# EAGLE library part ATTINY3224-SSU (library ATTINY3224-SSU)
8-bit Microcontrollers - MCU 20MHz, 32KB, SOIC14, Ind 85C, Green Source: Datasheet <https://ww1.microchip.com/downloads/aemDocuments/documents/MCU08/ProductDocuments/DataSheets/ATtiny3224-3226-3227-Data-Sheet-DS40002345B.pdf>
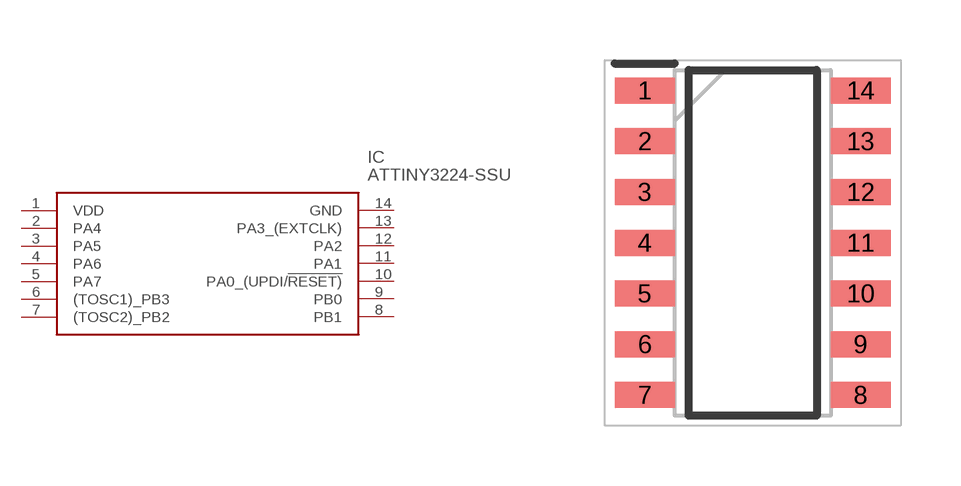
[diagram p0: symbol with the pads of SOIC127P600X175-14N; footprint SOIC127P600X175-14N]

Designator prefix IC

## ATTINY3224-SSU (Arrow_Part_Number: ATTINY3224-SSU; Arrow_Price-Stock: https://www.arrow.com/en/products/attiny3224-ssu/microchip-technology?region=nac; Description: 8-bit Microcontrollers - MCU 20MHz, 32KB, SOIC14, Ind 85C, Green; Height: 1.75mm; Manufacturer_Name: Microchip; Manufacturer_Part_Number: ATTINY3224-SSU; Mouser_Part_Number: 579-ATTINY3224-SSU; Mouser_Price-Stock: https://www.mouser.co.uk/ProductDetail/Microchip-Technology-Atmel/ATTINY3224-SSU?qs=A6eO%252BMLsxmTXlQkMmf%252B9gw%3D%3D)  [SOIC127P600X175-14N]
1  VDD
2  PA4
3  PA5
4  PA6
5  PA7
6  (TOSC1)_PB3
7  (TOSC2)_PB2
8  PB1
9  PB0
10  PA0_(UPDI/!RESET)
11  PA1
12  PA2
13  PA3_(EXTCLK)
14  GND

## Footprint SOIC127P600X175-14N (pad centres in mm)
14-LEAD PSO (SL) - NARROW, 3.9MM [SOIC]
smd 1.5 x 0.65: 1 -2.7,3.81; 2 -2.7,2.54; 3 -2.7,1.27; 4 -2.7,0; 5 -2.7,-1.27; 6 -2.7,-2.54; 7 -2.7,-3.81; 8 2.7,-3.81; 9 2.7,-2.54; 10 2.7,-1.27; 11 2.7,0; 12 2.7,1.27; 13 2.7,2.54; 14 2.7,3.81